# EAGLE library part HEADER_PRG_XILINX_JTAG6 (library dp_devices)
6-pin Xilinx JTAG programming header
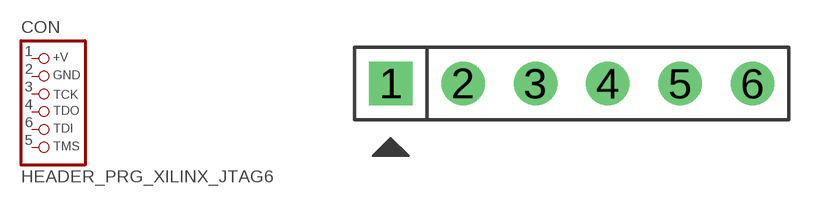
[diagram p30: symbol with the pads of HEADER_PRG_1X06; footprint HEADER_PRG_1X06]

Designator prefix CON

## HEADER_PRG_XILINX_JTAG6  [HEADER_PRG_1X06]
1  +V  pas
2  GND  pas
3  TCK  pas
4  TDO  pas
5  TMS  pas
6  TDI  pas

## Footprint HEADER_PRG_1X06 (pad centres in mm)
drill 1.016 square: 1 -6.35,0
drill 1.016 round: 2 -3.81,0; 3 -1.27,0; 4 1.27,0; 5 3.81,0; 6 6.35,0